# Altium footprint library 未分类器件.PcbLib: 59 footprints (part 3 of 4)
Each footprint in its own frame and in the unit in brackets; x right, y up, seen from the top. Pads: shape width x height; smd on the part's side, far side on the other; paste and mask are expansions set on the pad; w line width, h text height; cw(c..) or ccw(c..) is an arc to the next point about the centre after c.
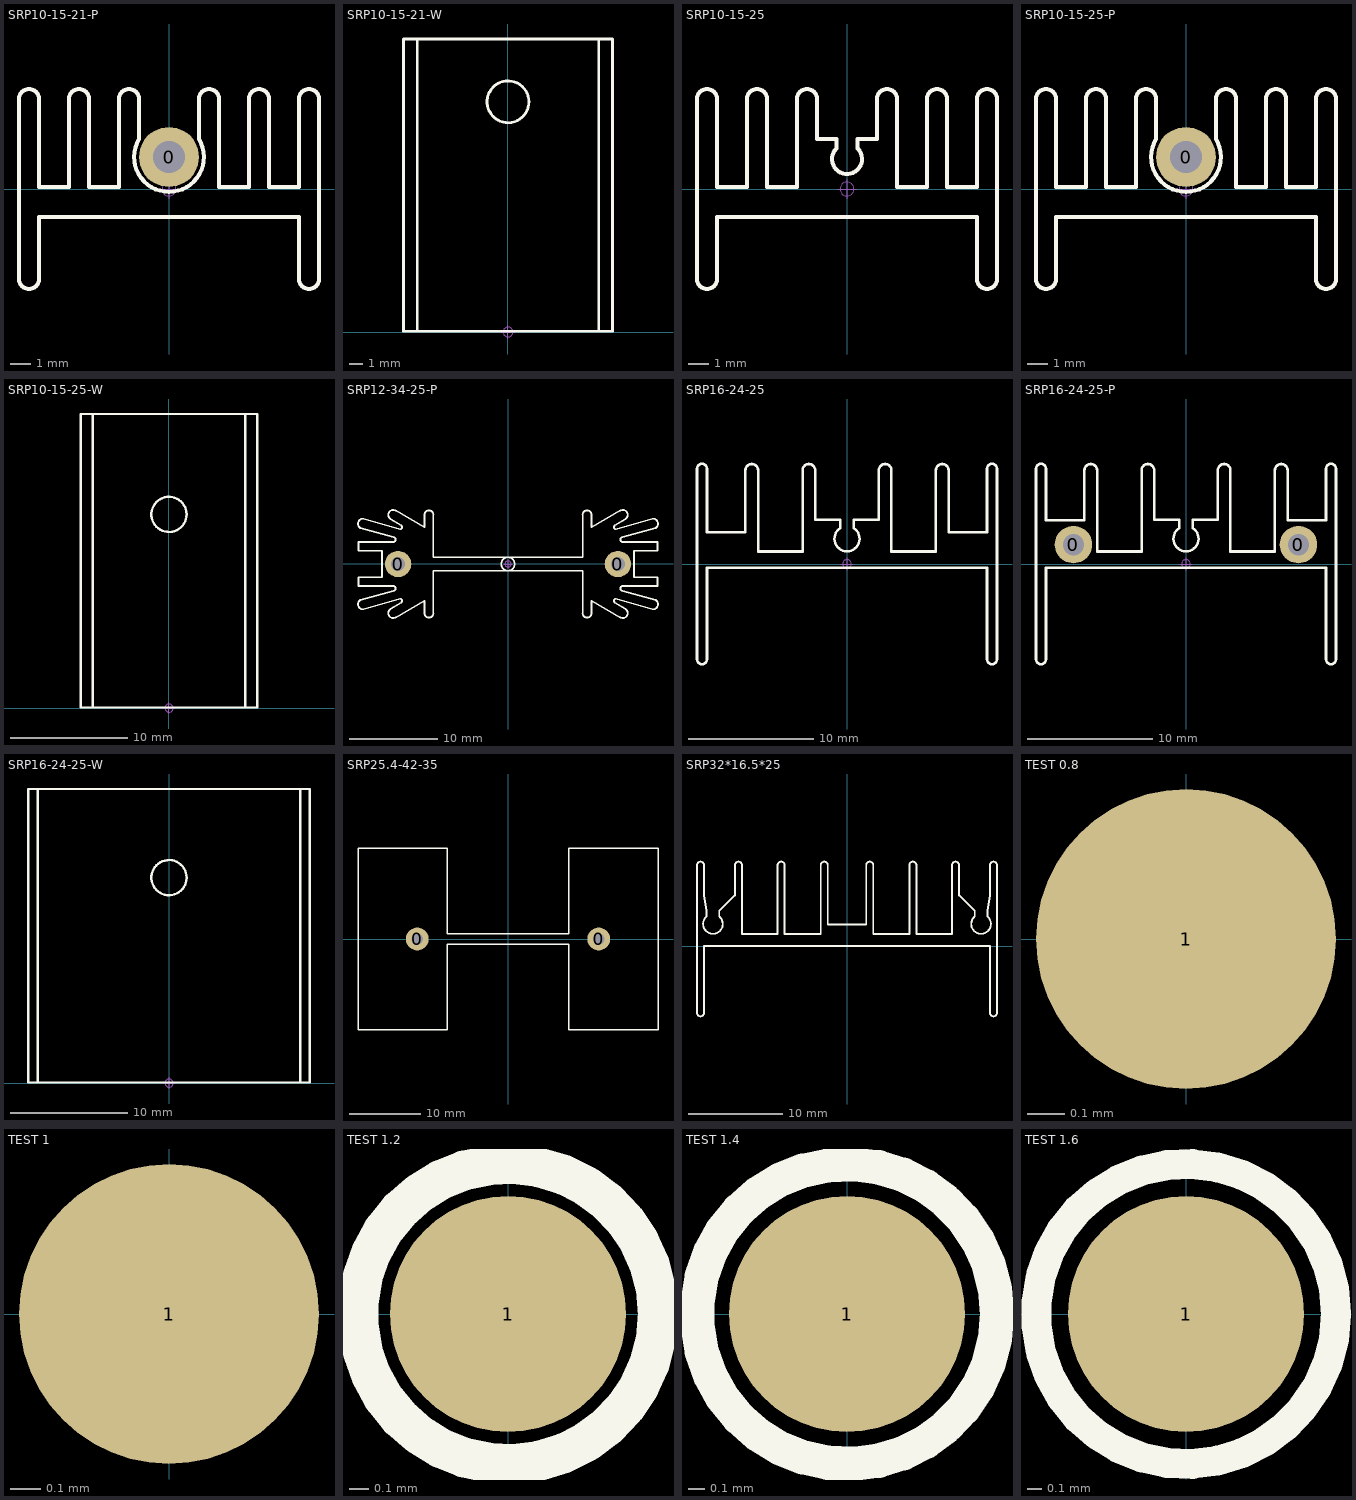
[diagram p2: the footprints below, top view; thin cyan lines are the x and y axes]

## SRP10-15-21-P [mm] "10mm*15mm*21mm(长*宽*高)"
pads (1):
  round 3 hole 1.6 unplated: 0(0,1.6)
Top Overlay:
  lines w0.203: -7.5,-4.5 ccw(c-7,-4.5) -6.5,-4.5 -6.5,-1.4 6.5,-1.4 6.5,-4.5 ccw(c7,-4.5) 7.5,-4.5 7.5,4.5 ccw(c7,4.5) 6.5,4.5 6.5,0.1 5,0.1 5,4.5 ccw(c4.5,4.5) 4,4.5 4,0.1 2.5,0.1 2.5,4.5 ccw(c2,4.5) 1.5,4.5 1.5,2.494 cw(c0,1.6) -1.5,2.494 -1.5,4.5 ccw(c-2,4.5) -2.5,4.5 -2.5,0.1 -4,0.1 -4,4.5 ccw(c-4.5,4.5) -5,4.5 -5,0.1 -6.5,0.1 -6.5,4.5 ccw(c-7,4.5) -7.5,4.5 -7.5,-4.5
Mechanical 15:
  circle w0.05: c0,0 r0.35
  lines w0.05: -0.5,0 0.5,0 ; 0,-0.5 0,0.5
3D body "SRP10-15-21-P.STEP": height 21.05, standoff -3.45, extent -7.5,-5 7.5,5

## SRP10-15-21-W [mm] "10mm*15mm*21mm(长*宽*高)"
Top Overlay:
  circle w0.203: c0,16.5 r1.5
  lines w0.203: -6.5,0.05 -6.5,21 ; 6.5,0.05 6.5,21 ; -7.5,0.05 -7.5,21 7.5,21 7.5,0.05 -7.5,0.05
Mechanical 15:
  circle w0.05: c0,0 r0.35
  lines w0.05: -0.5,0 0.5,0 ; 0,-0.5 0,0.5
3D body "SRP10-15-21-W.STEP": height 10.05, standoff 0.05, extent -7.5,0.05 7.5,21.05

## SRP10-15-25 [mm] "10mm*15mm*25mm(长*宽*高)"
Top Overlay:
  lines w0.203: -7.5,-4.5 ccw(c-7,-4.5) -6.5,-4.5 -6.5,-1.4 6.5,-1.4 6.5,-4.5 ccw(c7,-4.5) 7.5,-4.5 7.5,4.5 ccw(c7,4.5) 6.5,4.5 6.5,0.1 5,0.1 5,4.5 ccw(c4.5,4.5) 4,4.5 4,0.1 2.5,0.1 2.5,4.5 ccw(c2,4.5) 1.5,4.5 1.5,2.494 0.533,2.494 0.533,2.026 0.555,2.004 cw(c0,1.5) -0.531,2.03 -0.533,2.032 -0.533,2.494 -1.5,2.494 -1.5,4.5 ccw(c-2,4.5) -2.5,4.5 -2.5,0.1 -4,0.1 -4,4.5 ccw(c-4.5,4.5) -5,4.5 -5,0.1 -6.5,0.1 -6.5,4.5 ccw(c-7,4.5) -7.5,4.5 -7.5,-4.5
Mechanical 15:
  circle w0.05: c0,0 r0.35
  lines w0.05: -0.5,0 0.5,0 ; 0,-0.5 0,0.5
3D body "SRP10-15-25.STEP": height 25.05, standoff 0.04, extent -7.5,-5 7.5,5

## SRP10-15-25-P [mm] "10mm*15mm*25mm(长*宽*高)"
pads (1):
  round 3 hole 1.6 unplated: 0(0,1.6)
Top Overlay:
  lines w0.203: -7.5,-4.5 ccw(c-7,-4.5) -6.5,-4.5 -6.5,-1.4 6.5,-1.4 6.5,-4.5 ccw(c7,-4.5) 7.5,-4.5 7.5,4.5 ccw(c7,4.5) 6.5,4.5 6.5,0.1 5,0.1 5,4.5 ccw(c4.5,4.5) 4,4.5 4,0.1 2.5,0.1 2.5,4.5 ccw(c2,4.5) 1.5,4.5 1.5,2.494 cw(c0,1.6) -1.5,2.494 -1.5,4.5 ccw(c-2,4.5) -2.5,4.5 -2.5,0.1 -4,0.1 -4,4.5 ccw(c-4.5,4.5) -5,4.5 -5,0.1 -6.5,0.1 -6.5,4.5 ccw(c-7,4.5) -7.5,4.5 -7.5,-4.5
Mechanical 15:
  circle w0.05: c0,0 r0.35
  lines w0.05: -0.5,0 0.5,0 ; 0,-0.5 0,0.5
3D body "SRP10-15-25-P.STEP": height 25.05, standoff -3.45, extent -7.5,-5 7.5,5

## SRP10-15-25-W [mm] "10mm*15mm*25mm(长*宽*高)"
Top Overlay:
  circle w0.203: c0,16.5 r1.5
  lines w0.203: -6.5,0.05 -6.5,25 ; 6.5,0.05 6.5,25.05 ; -7.5,0.05 -7.5,25.05 7.5,25.05 7.5,0.05 -7.5,0.05
Mechanical 15:
  circle w0.05: c0,0 r0.35
  lines w0.05: -0.5,0 0.5,0 ; 0,-0.5 0,0.5
3D body "SRP10-15-25-WL.STEP": height 10.05, standoff 0.05, extent -7.5,0.05 7.5,25.05

## SRP12-34-25-P [mm] "12mm*32mm*25mm(长*宽*高)"
pads (2):
  round 3 hole 1.6 unplated: 0(-12.5,-0.004) 0(12.5,-0.004)
Top Overlay:
  circle w0.203: c0,-0.004 r0.766
  lines w0.203: -14.326,-0.004 -14.326,-1.5 -17,-1.5 -17,-2.5 -13,-2.5 -13.047,-2.5 cw(c-13.059,-2.78) -13.047,-3.06 -16.802,-4.096 ccw(c-16.485,-4.576) -16.417,-5.147 -12.294,-3.95 cw(c-12.294,-4.195) -12.167,-4.404 -13.331,-5.107 ccw(c-13.056,-5.592) -12.807,-6.09 ; -14.326,0 -14.326,1.496 -17,1.496 -17,2.496 -13,2.496 -13.047,2.496 ccw(c-13.059,2.776) -13.047,3.056 -16.802,4.092 cw(c-16.485,4.572) -16.417,5.143 -12.294,3.946 ccw(c-12.294,4.191) -12.167,4.4 -13.331,5.103 cw(c-13.056,5.588) -12.807,6.086 ; -12.802,-6.1 -9.5,-4.195 -9.5,-5.592 ccw(c-8.992,-5.592) -8.484,-5.592 ; -12.802,6.096 -9.5,4.191 -9.5,5.588 cw(c-8.992,5.588) -8.484,5.588 ; -8.5,-5.592 -8.5,-0.762 8.5,-0.762 8.5,-5.592 ; -8.5,5.588 -8.5,0.762 8.5,0.762 8.5,5.588 ; 8.484,-5.592 ccw(c8.992,-5.592) 9.5,-5.592 9.5,-4.195 12.802,-6.1 ; 8.484,5.588 cw(c8.992,5.588) 9.5,5.588 9.5,4.191 12.802,6.096 ; 12.807,-6.09 ccw(c13.056,-5.592) 13.331,-5.107 12.167,-4.404 cw(c12.294,-4.195) 12.294,-3.95 16.417,-5.147 ccw(c16.485,-4.576) 16.802,-4.096 13.047,-3.06 cw(c13.059,-2.78) 13.047,-2.5 13,-2.5 17,-2.5 17,-1.5 14.326,-1.5 14.326,-0.004 ; 12.807,6.086 cw(c13.056,5.588) 13.331,5.103 12.167,4.4 ccw(c12.294,4.191) 12.294,3.946 16.417,5.143 cw(c16.485,4.572) 16.802,4.092 13.047,3.056 ccw(c13.059,2.776) 13.047,2.496 13,2.496 17,2.496 17,1.496 14.326,1.496 14.326,0
Mechanical 15:
  circle w0.05: c0,-0.004 r0.35
  lines w0.05: -0.5,-0.004 0.5,-0.004 ; 0,-0.504 0,0.496
3D body "SRP12-34-25-P.STEP": height 25.05, standoff -3.45, extent -17.012,-6.071 17.012,6.063

## SRP16-24-25 [mm] "16mm*24mm*25mm(长*宽*高)"
Top Overlay:
  lines w0.203: -12,-7.62 ccw(c-11.6,-7.62) -11.2,-7.62 -11.2,-0.3 11.2,-0.3 11.2,-7.62 ccw(c11.6,-7.62) 12,-7.62 12,-0.3 12,7.62 ccw(c11.6,7.62) 11.2,7.62 11.2,2.54 8.128,2.54 8.128,7.492 ccw(c7.62,7.491) 7.112,7.492 7.112,1 3.556,1 3.556,7.492 ccw(c3.048,7.491) 2.54,7.492 2.54,3.556 0.53,3.556 0.53,2.879 cw(c0,2.023) -0.53,2.879 -0.53,3.556 -2.54,3.556 -2.54,7.492 ccw(c-3.048,7.491) -3.556,7.492 -3.556,1 -7.112,1 -7.112,7.493 ccw(c-7.62,7.492) -8.128,7.493 -8.128,2.54 -11.2,2.54 -11.2,7.62 ccw(c-11.6,7.62) -12,7.62 -12,-0.3 -12,-7.62
Mechanical 15:
  circle w0.05: c0,0 r0.35
  lines w0.05: -0.5,0 0.5,0 ; 0,-0.5 0,0.5
3D body "SRP16-24-25.STEP": height 25.05, standoff 0.04, extent -12,-8 12,8

## SRP16-24-25-P [mm] "16mm*24mm*25mm(长*宽*高)"
pads (2):
  round 3 hole 1.7 unplated: 0(-9,1.55) 0(9,1.55)
Top Overlay:
  lines w0.203: -12,-7.62 ccw(c-11.6,-7.62) -11.2,-7.62 -11.2,-0.3 11.2,-0.3 11.2,-7.62 ccw(c11.6,-7.62) 12,-7.62 12,-0.3 12,7.62 ccw(c11.6,7.62) 11.2,7.62 11.2,3.5 8.128,3.5 8.128,7.492 ccw(c7.62,7.491) 7.112,7.492 7.112,1 3.556,1 3.556,7.492 ccw(c3.048,7.491) 2.54,7.492 2.54,3.556 0.53,3.556 0.53,2.879 cw(c0,2.023) -0.53,2.879 -0.53,3.556 -2.54,3.556 -2.54,7.492 ccw(c-3.048,7.491) -3.556,7.492 -3.556,1 -7.112,1 -7.112,7.493 ccw(c-7.62,7.492) -8.128,7.493 -8.128,3.5 -11.2,3.5 -11.2,7.62 ccw(c-11.6,7.62) -12,7.62 -12,-0.3 -12,-7.62
Mechanical 15:
  circle w0.05: c0,0 r0.35
  lines w0.05: -0.5,0 0.5,0 ; 0,-0.5 0,0.5
3D body "SRP16-24-25-P.STEP": height 25.05, standoff -3.45, extent -12,-8 12,8

## SRP16-24-25-W [mm] "16mm*24mm*25mm(长*宽*高)"
Top Overlay:
  circle w0.203: c0,17.5 r1.5
  lines w0.203: -11.176,0.05 -11.176,25.05 ; 11.176,0.05 11.176,25.05 ; -12,0.05 -12,25.05 12,25.05 12,0.05 -12,0.05
Mechanical 15:
  circle w0.05: c0,0 r0.35
  lines w0.05: -0.5,0 0.5,0 ; 0,-0.5 0,0.5
3D body "SRP16-24-25-W.STEP": height 16.05, standoff 0.05, extent -12,0.05 12,25.05

## SRP25.4-42-35 [mm]
pads (2):
  round 3.2 hole 1.6: 0(-12.7,0) 0(12.7,0)
Top Overlay:
  lines w0.2: -21,-12.7 -21,12.7 -8.5,12.7 -8.5,0.75 8.5,0.75 8.5,12.7 21,12.7 21,-12.7 8.5,-12.7 8.5,-0.75 -8.5,-0.75 -8.5,-12.7 -21,-12.7
3D body: height 35, standoff 0, extent -21,-12.7 21,12.7

## SRP32*16.5*25 [mm]
Top Overlay:
  lines w0.2: -16,-7.125 ccw(c-15.625,-7.125) -15.25,-7.125 -15.25,0 15.25,0 15.25,-7.125 ccw(c15.625,-7.125) 16,-7.125 16,8.625 ccw(c15.625,8.625) 15.25,8.625 15.25,5.4 14.975,3.754 14.975,3.154 cw(c14.3,2.35) 13.625,3.154 13.625,3.754 11.95,5.4 11.95,8.625 ccw(c11.575,8.625) 11.2,8.625 11.2,1.3 7.4,1.3 7.4,8.625 ccw(c7.025,8.625) 6.65,8.625 6.65,1.3 2.8,1.3 2.8,2.3 2.8,8.625 ccw(c2.425,8.625) 2.05,8.625 2.05,2.3 -2.05,2.3 -2.05,8.625 ccw(c-2.425,8.625) -2.8,8.625 -2.8,2.3 -2.8,1.3 -6.65,1.3 -6.65,8.625 ccw(c-7.025,8.625) -7.4,8.625 -7.4,1.3 -11.2,1.3 -11.2,8.625 ccw(c-11.575,8.625) -11.95,8.625 -11.95,5.4 -13.625,3.754 -13.625,3.154 cw(c-14.3,2.35) -14.975,3.154 -14.975,3.754 -15.25,5.4 -15.25,8.625 ccw(c-15.625,8.625) -16,8.625 -16,-7.125
3D body: height 25, standoff 0, extent -16,-7.493 16,9.017

## TEST 0.8 [mm] "测试点0.8mm"
pads (1):
  round 0.8 smd: 1(0,0)

## TEST 1 [mm] "测试点1mm"
pads (1):
  round 1 smd paste-1: 1(0,0)

## TEST 1.2 [mm] "测试点1.2mm"
pads (1):
  round 1.2 smd paste-1.2: 1(0,0)
Top Overlay:
  circle w0.203: c0,0 r0.762

## TEST 1.4 [mm] "测试点1.4mm"
pads (1):
  round 1.4 smd paste-1.4: 1(0,0)
Top Overlay:
  circle w0.203: c0,0 r0.889

## TEST 1.6 [mm] "测试点1.6mm"
pads (1):
  round 1.6 smd paste-1.6: 1(0,0)
Top Overlay:
  circle w0.203: c0,0 r1.016